# EAGLE library part RM3100 (library PNY)
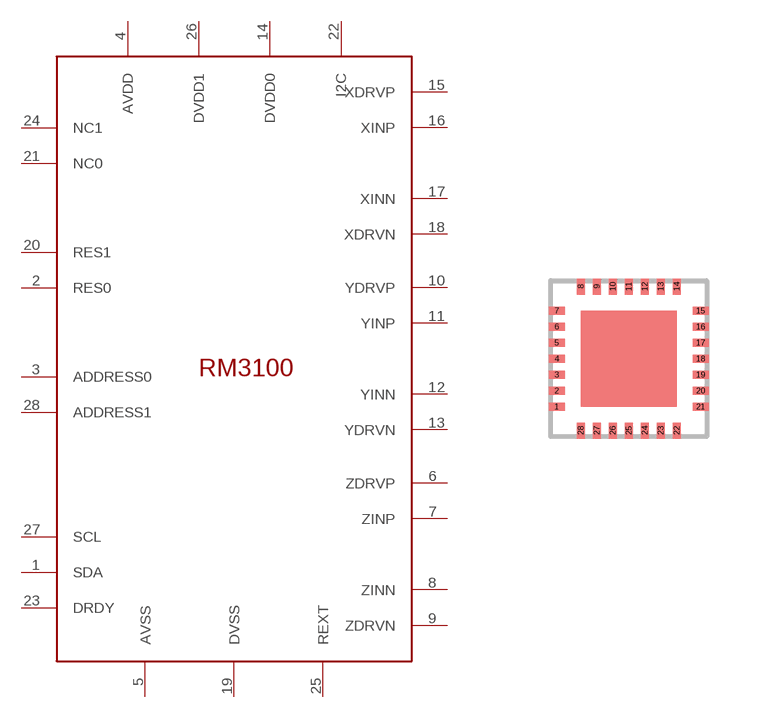
[diagram p0: symbol with the pads of MLF28_4X4; footprint MLF28_4X4]

Designator prefix -

## RM3100  [MLF28_4X4]
1  SDA
2  RES0
3  ADDRESS0
4  AVDD
5  AVSS
6  ZDRVP
7  ZINP
8  ZINN
9  ZDRVN
10  YDRVP
11  YINP
12  YINN
13  YDRVN
14  DVDD0
15  XDRVP
16  XINP
17  XINN
18  XDRVN
19  DVSS
20  RES1
21  NC0
22  I2C
23  DRDY
24  NC1
25  REXT
26  DVDD1
27  SCL
28  ADDRESS1

## Footprint MLF28_4X4 (pad centres in mm)
MagI2C MLF Mechanical Drawing MLF; 24 terminals; body 4 x 4 x 0.75 mm Source: https://www.pnicorp.com/wp-content/uploads/RM3100-Sensor-Suite-User-Manual-R07.pdf
smd 0.4 x 0.2: 1 -1.8,-1.2; 2 -1.8,-0.8; 3 -1.8,-0.4; 4 -1.8,0; 5 -1.8,0.4; 6 -1.8,0.8; 7 -1.8,1.2; 15 1.8,1.2; 16 1.8,0.8; 17 1.8,0.4; 18 1.8,0; 19 1.8,-0.4; 20 1.8,-0.8; 21 1.8,-1.2
smd 0.2 x 0.4: 8 -1.2,1.8; 9 -0.8,1.8; 10 -0.4,1.8; 11 0,1.8; 12 0.4,1.8; 13 0.8,1.8; 14 1.2,1.8; 22 1.2,-1.8; 23 0.8,-1.8; 24 0.4,-1.8; 25 0,-1.8; 26 -0.4,-1.8; 27 -0.8,-1.8; 28 -1.2,-1.8